# Altium footprint library 2mm 13 pin male header.PcbLib: 1 footprints
Each footprint in its own frame and in the unit in brackets; x right, y up, seen from the top. Pads: shape width x height; smd on the part's side, far side on the other; paste and mask are expansions set on the pad; w line width, h text height; cw(c..) or ccw(c..) is an arc to the next point about the centre after c.
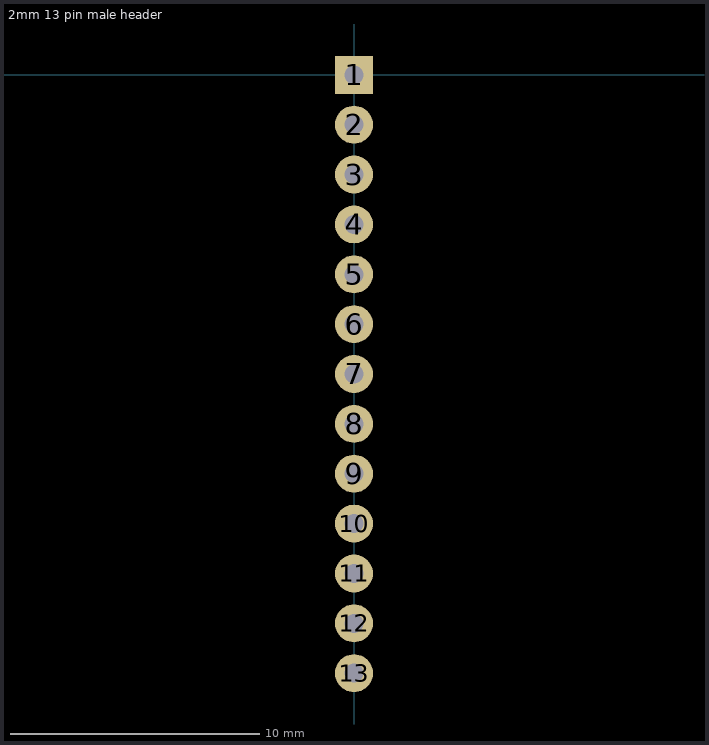
[diagram p0: the footprint, top view; thin cyan lines are the x and y axes]

## 2mm 13 pin male header [mil]
pads (13):
  rect 60x60 hole 30: 1(0,0)
  round 60 hole 30: 2(0,-78.74) 3(0,-157.48) 4(0,-236.22) 5(0,-314.96) 6(0,-393.7) 7(0,-472.44) 8(0,-551.18) 9(0,-629.92) 10(0,-708.66) 11(0,-787.4) 12(0,-866.14) 13(0,-944.88)
Mechanical 2:
  circle w0.5: c0,0 r9.84
  circle w0.5: c0,0 r9.84
  circle w0.5: c0,-78.74 r9.84
  circle w0.5: c0,-157.48 r9.84
  circle w0.5: c0,-236.22 r9.84
  circle w0.5: c0,-314.96 r9.84
  circle w0.5: c0,-393.7 r9.84
  circle w0.5: c0,-472.44 r9.84
  circle w0.5: c0,-551.18 r9.84
  circle w0.5: c0,-629.92 r9.84
  circle w0.5: c0,-708.66 r9.84
3D body "2mm 13pin male header.x_t": height 236.22, standoff -65.75, extent -39.36,-984.25 39.38,39.37